# Altium footprint library IC.PcbLib: 29 footprints (part 2 of 2)
Each footprint in its own frame and in the unit in brackets; x right, y up, seen from the top. Pads: shape width x height; smd on the part's side, far side on the other; paste and mask are expansions set on the pad; w line width, h text height; cw(c..) or ccw(c..) is an arc to the next point about the centre after c.
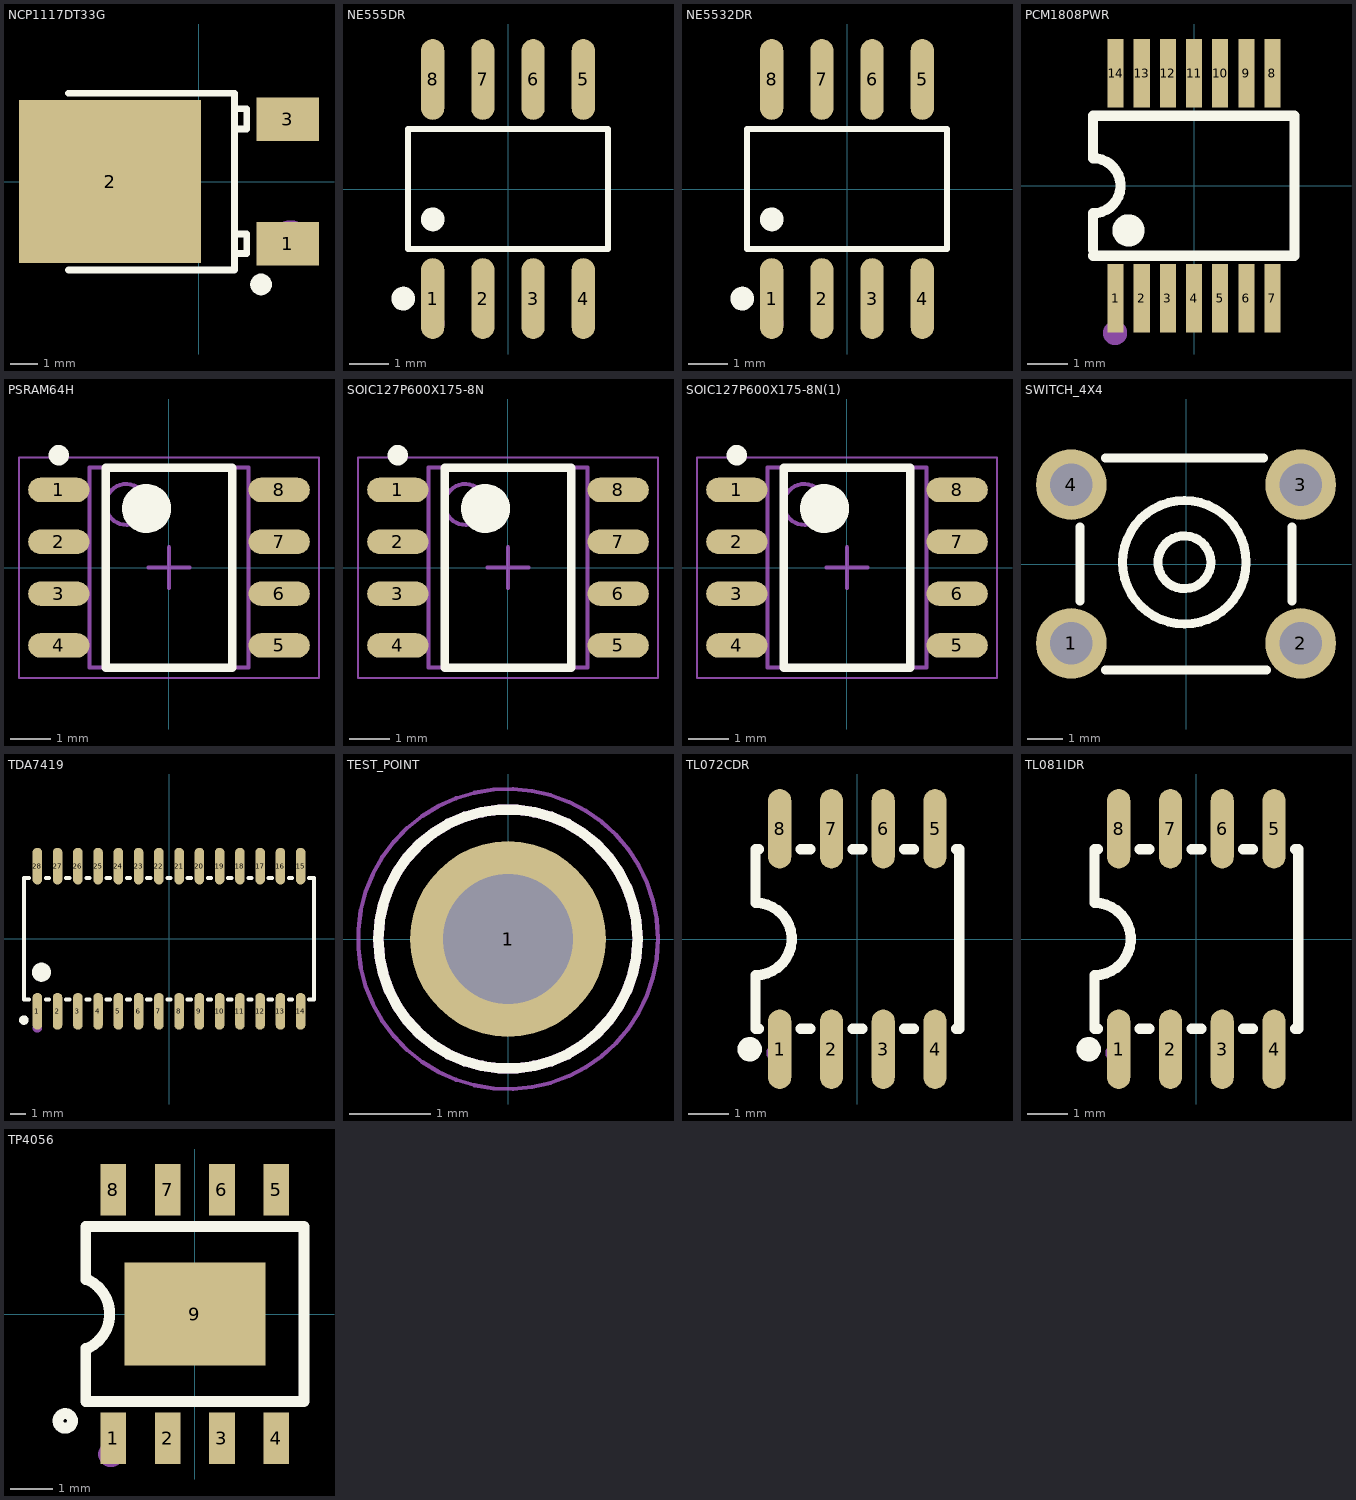
[diagram p1: the footprints below, top view; thin cyan lines are the x and y axes]

## NCP1117DT33G [mm]
pads (3):
  rect 2.3x1.6 smd paste+0 mask+0.051: 1(3.267,-2.29) 3(3.267,2.29)
  rect 6.7x6 smd paste+0 mask+0.051: 2(-3.267,0)
Top Overlay:
  lines w0.254: -4.794,-3.251 1.302,-3.251 1.302,3.251 -4.794,3.251 ; 1.302,-2.642 1.759,-2.642 1.759,-1.919 1.302,-1.919 ; 1.302,1.93 1.759,1.93 1.759,2.679 1.302,2.679
  lines w0.4: 2.285,-3.581 ccw(c2.286,-3.781) 2.288,-3.581
Mechanical 15:
  circle w0.8: c3.36,-2.222 r0.4
3D body "step_temp.STEP": height 2.39, standoff 0, extent -6.35,-3.25 3.556,3.25

## NE555DR [mm]
pads (8):
  oval 0.588x2.045 smd paste+0 mask+0.051: 1(-1.905,-2.773) 2(-0.635,-2.773) 3(0.635,-2.773) 4(1.905,-2.773) 5(1.905,2.773) 6(0.635,2.773) 7(-0.635,2.773) 8(-1.905,2.773)
Top Overlay:
  circle w0.3: c-2.652,-2.772 r0.15
  circle w0.3: c-1.905,-0.769 r0.15
  lines w0.152: -2.526,-1.521 2.526,-1.521 2.526,1.521 -2.526,1.521 -2.526,-1.521
Mechanical 15:
  circle w0.3: c-1.905,-3.4 r0.15
3D body "step_temp.STEP": height 1.75, standoff 0, extent -2.45,-3 2.45,3

## NE5532DR [mm]
pads (8):
  oval 0.588x2.045 smd paste+0 mask+0.051: 1(-1.905,-2.773) 2(-0.635,-2.773) 3(0.635,-2.773) 4(1.905,-2.773) 5(1.905,2.773) 6(0.635,2.773) 7(-0.635,2.773) 8(-1.905,2.773)
Top Overlay:
  circle w0.3: c-1.905,-0.769 r0.15
  circle w0.3: c-2.652,-2.772 r0.15
  lines w0.152: -2.526,-1.521 -2.526,1.521 2.526,1.521 2.526,-1.521 -2.526,-1.521
Mechanical 15:
  circle w0.3: c-1.905,-3.4 r0.15
3D body "SOIC-8.step": height 1.52, standoff 0, extent -2.45,-2.975 2.45,2.925

## PCM1808PWR [mm]
pads (14):
  rect 0.4x1.7 smd paste+0 mask+0.051: 1(-1.95,-2.8) 2(-1.3,-2.8) 3(-0.65,-2.8) 4(0,-2.8) 5(0.65,-2.8) 6(1.3,-2.8) 7(1.95,-2.8) 8(1.95,2.8) 9(1.3,2.8) 10(0.65,2.8) 11(0,2.8) 12(-0.65,2.8) 13(-1.3,2.8) 14(-1.95,2.8)
Top Overlay:
  circle w0.4: c-1.63,-1.11 r0.2
  lines w0.254: -2.515,-1.74 2.5,-1.74 2.5,1.743 -2.515,1.743 -2.515,0.686 cw(c-2.515,0) -2.515,-0.686 -2.515,-1.6
Mechanical 15:
  circle w0.3: c-1.964,-3.662 r0.15
3D body "TSSOP-14.STEP": height 1.01, standoff 0, extent -2.5,-3.15 2.5,3.15

## PSRAM64H [mm]
pads (8):
  oval 1.5x0.6 smd: 1(-2.7,1.905) 2(-2.7,0.635) 3(-2.7,-0.635) 4(-2.7,-1.905) 5(2.7,-1.905) 6(2.7,-0.635) 7(2.7,0.635) 8(2.7,1.905)
Top Overlay:
  circle w0.6: c-0.55,1.45 r0.3
  circle w0.25: c-2.7,2.755 r0.125
  lines w0.2: -1.55,-2.45 1.55,-2.45 1.55,2.45 -1.55,2.45 -1.55,-2.45
Mechanical 13:
  circle w0.1: c-1.05,1.55 r0.5
  lines w0.1: -1.95,-2.45 1.95,-2.45 1.95,2.45 -1.95,2.45 -1.95,-2.45
Mechanical 15:
  lines w0.05: -3.675,-2.7 3.675,-2.7 3.675,2.7 -3.675,2.7 -3.675,-2.7
  lines w0.1: -0.5,0 0.5,0 ; 0,-0.5 0,0.5
3D body "PSRAM64H.STEP": height 1.76, standoff 0, extent -3,-2.45 3,2.45

## SOIC127P600X175-8N [mm] "SOIC, 8-Leads, Body 4.90x3.90mm, Pitch 1.27mm, IPC Medium Density"
height 1.75
pads (8):
  oval 1.5x0.6 smd: 1(-2.7,1.905) 2(-2.7,0.635) 3(-2.7,-0.635) 4(-2.7,-1.905) 5(2.7,-1.905) 6(2.7,-0.635) 7(2.7,0.635) 8(2.7,1.905)
Top Overlay:
  circle w0.25: c-2.7,2.755 r0.125
  circle w0.6: c-0.55,1.45 r0.3
  lines w0.2: -1.55,-2.45 -1.55,2.45 1.55,2.45 1.55,-2.45 -1.55,-2.45
Mechanical 13:
  circle w0.1: c-1.05,1.55 r0.5
  lines w0.1: -1.95,-2.45 -1.95,2.45 1.95,2.45 1.95,-2.45 -1.95,-2.45
Mechanical 15:
  lines w0.05: -3.675,-2.7 -3.675,2.7 3.675,2.7 3.675,-2.7 -3.675,-2.7
  lines w0.1: -0.5,0 0.5,0 ; 0,-0.5 0,0.5
3D body "PSRAM64H.STEP": height 1.76, standoff 0, extent -3,-2.45 3,2.45

## SOIC127P600X175-8N(1) [mm] "SOIC, 8-Leads, Body 4.90x3.90mm, Pitch 1.27mm, IPC Medium Density"
height 1.75
pads (8):
  oval 1.5x0.6 smd: 1(-2.7,1.905) 2(-2.7,0.635) 3(-2.7,-0.635) 4(-2.7,-1.905) 5(2.7,-1.905) 6(2.7,-0.635) 7(2.7,0.635) 8(2.7,1.905)
Top Overlay:
  circle w0.25: c-2.7,2.755 r0.125
  circle w0.6: c-0.55,1.45 r0.3
  lines w0.2: -1.55,-2.45 -1.55,2.45 1.55,2.45 1.55,-2.45 -1.55,-2.45
Mechanical 13:
  circle w0.1: c-1.05,1.55 r0.5
  lines w0.1: -1.95,-2.45 -1.95,2.45 1.95,2.45 1.95,-2.45 -1.95,-2.45
Mechanical 15:
  lines w0.05: -3.675,-2.7 -3.675,2.7 3.675,2.7 3.675,-2.7 -3.675,-2.7
  lines w0.1: -0.5,0 0.5,0 ; 0,-0.5 0,0.5
3D body "PSRAM64H.STEP": height 1.76, standoff 0, extent -3,-2.45 3,2.45

## SWITCH_4X4 [mm]
pads (4):
  round 2 hole 1.2 paste-2539.97 mask+0.051: 1(-3.25,-2.25) 2(3.25,-2.25) 3(3.25,2.25) 4(-3.25,2.25)
Top Overlay:
  circle w0.254: c-0.046,0.048 r0.749
  circle w0.254: c-0.046,0.048 r1.75
  lines w0.254: -3,-1.044 -3,1.044 ; -2.274,-3 2.274,-3 ; -2.274,3 2.2,3 ; 3,-1.044 3,1.044
Mechanical 15:
  lines w0.003: 1.968,0.127 1.969,0.127
3D body "Switch4x4.STEP": height 4.3, standoff -3.55, extent -3.944,-3 3.944,3

## TDA7419 [mm]
pads (28):
  oval 0.6x2.3 smd paste+0 mask+0.051: 1(-8.255,-4.55) 2(-6.985,-4.55) 3(-5.715,-4.55) 4(-4.445,-4.55) 5(-3.175,-4.55) 6(-1.905,-4.55) 7(-0.635,-4.55) 8(0.635,-4.55) 9(1.905,-4.55) 10(3.175,-4.55) 11(4.445,-4.55) 12(5.715,-4.55) 13(6.985,-4.55) 14(8.255,-4.55) 15(8.255,4.55) 16(6.985,4.55) 17(5.715,4.55) 18(4.445,4.55) 19(3.175,4.55) 20(1.905,4.55) 21(0.635,4.55) 22(-0.635,4.55) 23(-1.905,4.55) 24(-3.175,4.55) 25(-4.445,4.55) 26(-5.715,4.55) 27(-6.985,4.55) 28(-8.255,4.55)
Top Overlay:
  lines w0.254: -8.786,-3.8 -9.1,-3.8 -9.1,3.8 -8.786,3.8 ; -7.724,-3.8 -7.516,-3.8 ; -7.724,3.8 -7.516,3.8 ; -6.454,-3.8 -6.246,-3.8 ; -6.454,3.8 -6.246,3.8 ; -5.184,-3.8 -4.976,-3.8 ; -5.184,3.8 -4.976,3.8 ; -3.914,-3.8 -3.706,-3.8 ; -3.914,3.8 -3.706,3.8 ; -2.644,-3.8 -2.436,-3.8 ; -2.644,3.8 -2.436,3.8 ; -1.374,-3.8 -1.166,-3.8 ; -1.374,3.8 -1.166,3.8 ; -0.104,-3.8 0.104,-3.8 ; -0.104,3.8 0.104,3.8 ; 1.166,-3.8 1.374,-3.8 ; 1.166,3.8 1.374,3.8 ; 2.436,-3.8 2.644,-3.8 ; 2.436,3.8 2.644,3.8 ; 3.706,-3.8 3.914,-3.8 ; 3.706,3.8 3.914,3.8 ; 4.976,-3.8 5.184,-3.8 ; 4.976,3.8 5.184,3.8 ; 6.246,-3.8 6.454,-3.8 ; 6.246,3.8 6.454,3.8 ; 7.516,-3.8 7.724,-3.8 ; 7.516,3.8 7.724,3.8 ; 8.786,-3.8 9.1,-3.8 9.1,3.8 8.786,3.8
  lines w0.3: -9.101,-4.95 ccw(c-9.1,-5.1) -9.098,-4.95
  lines w0.6: -8.001,-1.801 ccw(c-7.998,-2.101) -7.996,-1.801
Mechanical 15:
  circle w0.3: c-8.255,-5.588 r0.15
3D body "TDA7419_120825.STEP": height 2.75, standoff 0, extent -8.95,-5.162 8.95,5.162

## TEST_POINT [mm]
pads (1):
  round 2.4 hole 1.6: 1(0,0)
Top Overlay:
  circle w0.127: c0,0 r1.59
Mechanical 13:
  circle w0.127: c0,0 r1.59
Mechanical 15:
  circle w0.05: c0,0 r1.84
3D body "step_temp.STEP": height 8.13, standoff -3.17, extent -1.584,-1.587 1.584,1.587

## TL072CDR [mil]
pads (8):
  oval 22.38x76.78 smd paste+0 mask+2: 1(-75,-106.5) 2(-25,-106.5) 3(25,-106.5) 4(75,-106.5) 5(75,106.5) 6(25,106.5) 7(-25,106.5) 8(-75,106.5)
Top Overlay:
  circle w11.81: c-104,-106.5 r5.91
  lines w10: -98.43,-35 ccw(c-98.41,0) -98.4,35 -98.42,86.61 -95.29,86.61 ; -98.42,-35 -98.42,-86.61 -95.29,-86.61 ; -54.71,-86.61 -45.29,-86.61 ; -54.71,86.61 -45.29,86.61 ; -4.71,-86.61 4.71,-86.61 ; -4.71,86.61 4.71,86.61 ; 45.29,-86.61 54.71,-86.61 ; 45.29,86.61 54.71,86.61 ; 95.29,-86.61 98.42,-86.61 98.42,86.61 95.29,86.61
Mechanical 15:
  circle w7.87: c-80,-110 r3.94
3D body "TL072CDRE4.STEP": height 68.9, standoff 0, extent -96.46,-118.11 96.46,118.11

## TL081IDR [mil]
pads (8):
  oval 22.38x76.78 smd paste+0 mask+2: 1(-75,-106.5) 2(-25,-106.5) 3(25,-106.5) 4(75,-106.5) 5(75,106.5) 6(25,106.5) 7(-25,106.5) 8(-75,106.5)
Top Overlay:
  circle w11.81: c-104,-106.5 r5.91
  lines w10: -98.43,-35 ccw(c-98.41,0) -98.4,35 -98.42,86.61 -95.29,86.61 ; -98.42,-35 -98.42,-86.61 -95.29,-86.61 ; -54.71,-86.61 -45.29,-86.61 ; -54.71,86.61 -45.29,86.61 ; -4.71,-86.61 4.71,-86.61 ; -4.71,86.61 4.71,86.61 ; 45.29,-86.61 54.71,-86.61 ; 45.29,86.61 54.71,86.61 ; 95.29,-86.61 98.42,-86.61 98.42,86.61 95.29,86.61
Mechanical 15:
  circle w7.87: c-80,-110 r3.94
3D body "TL081IDR.STEP": height 68.9, standoff 0, extent -96.46,-118.11 96.46,118.11

## TP4056 [mm]
pads (9):
  rect 0.6x1.2 smd paste+0 mask+0.051: 1(-1.905,-2.908) 2(-0.635,-2.908) 3(0.635,-2.908) 4(1.905,-2.908) 5(1.905,2.908) 6(0.635,2.908) 7(-0.635,2.908) 8(-1.905,2.908)
  rect 3.3x2.4 smd paste+0 mask+0.051: 9(0,0)
Top Overlay:
  circle w0.254: c-3.03,-2.5 r0.17
  lines w0.254: -2.55,-0.8 -2.55,-2.05 2.55,-2.05 2.55,2.05 -2.55,2.05 -2.55,0.8 ; -2.5,-0.8 ccw(c-2.875,0) -2.5,0.8
Mechanical 15:
  circle w0.3: c-1.96,-3.28 r0.15
3D body "TP4056--3DModel-STEP-56544.STEP": height 1.76, standoff 0, extent -2.462,-3 2.438,3